# Altium footprint library PcbLib1.PcbLib: 1 footprints
Each footprint in its own frame and in the unit in brackets; x right, y up, seen from the top. Pads: shape width x height; smd on the part's side, far side on the other; paste and mask are expansions set on the pad; w line width, h text height; cw(c..) or ccw(c..) is an arc to the next point about the centre after c.
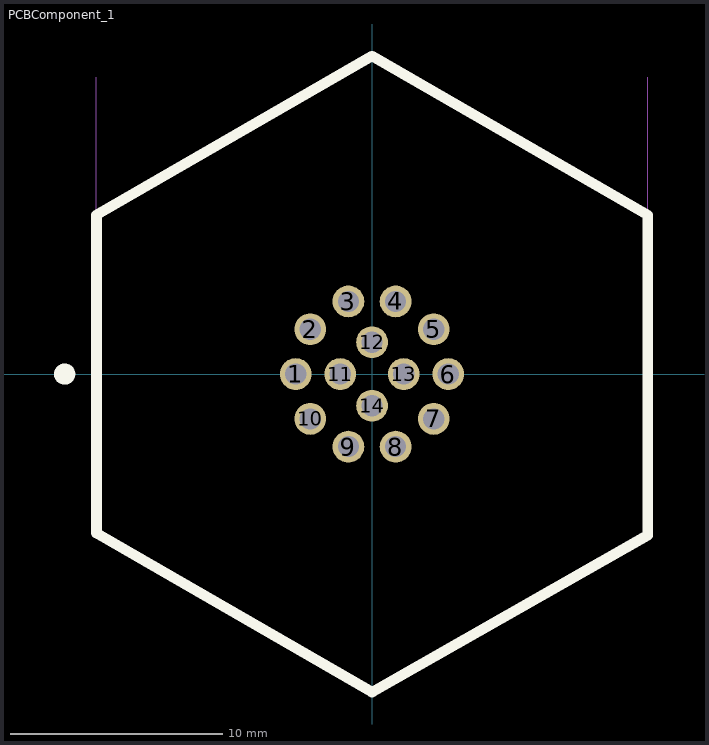
[diagram p0: the footprint, top view; thin cyan lines are the x and y axes]

## PCBComponent_1 [mm]
pads (14):
  round 1.5 hole 1: 1(-3.6,0) 2(-2.912,2.116) 3(-1.112,3.424) 4(1.112,3.424) 5(2.912,2.116) 6(3.6,0) 7(2.912,-2.116) 8(1.112,-3.424) 9(-1.112,-3.424) 10(-2.912,-2.116) 11(-1.5,0) 12(0,1.5) 13(1.5,0) 14(0,-1.5)
Top Overlay:
  circle w0.6: c-14.5,0 r0.2
  lines w0.5: -13,-7.5 -13,7.5 0,15 13,7.5 13,-7.6 0,-15 -13,-7.5
Mechanical 1:
  lines w0.01: -13,-7.506 -6.5,-11.258 -0.005,-15.008 ; -13,0 -13,14 ; -12.993,7.51 -6.493,11.262 0.002,15.012 ; 0,15 12.999,7.495 ; 0.005,-15.003 6.505,-11.25 13,-7.5 ; 13,0 13,14
3D body "ACRK-16-01-G-T-B1-M-1.stp": height 23.52, standoff -3, extent -13.279,-15.015 13.279,15.016